# EAGLE library part ADM7155ACPZ-04-R7 (library ADM7155ACPZ-04-R7)
LDO Voltage Regulators 600mA Ultra-Low-Nois High-PSRR LDO ADJ Source: Datasheet <https://componentsearchengine.com/Datasheets/1/ADM7155ACPZ-04-R7.pdf>
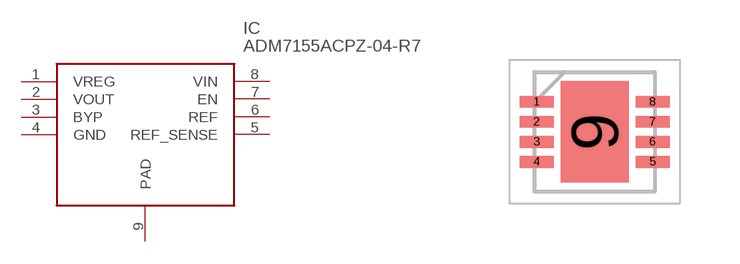
[diagram p0: symbol with the pads of SON50P300X300X80-9N; footprint SON50P300X300X80-9N]

Designator prefix IC

## ADM7155ACPZ-04-R7 (Description: LDO Voltage Regulators 600mA Ultra-Low-Nois High-PSRR LDO ADJ; Height: 0.8mm; Manufacturer_Name: Analog Devices; Manufacturer_Part_Number: ADM7155ACPZ-04-R7; Mouser_Part_Number: 584-ADM7155ACPZ-04R7; Mouser_Price-Stock: https://www.mouser.co.uk/ProductDetail/Analog-Devices/ADM7155ACPZ-04-R7?qs=iCT64eccu7j%2Fv45ioAdAhA%3D%3D)  [SON50P300X300X80-9N]
1  VREG
2  VOUT
3  BYP
4  GND
5  REF_SENSE
6  REF
7  EN
8  VIN
9  PAD

## Footprint SON50P300X300X80-9N (pad centres in mm)
CP-8-21
smd 0.85 x 0.3: 1 -1.45,0.75; 2 -1.45,0.25; 3 -1.45,-0.25; 4 -1.45,-0.75; 5 1.45,-0.75; 6 1.45,-0.25; 7 1.45,0.25; 8 1.45,0.75
smd 1.7 x 2.54: 9 0,0